# EAGLE library part M09X2 (library custom)
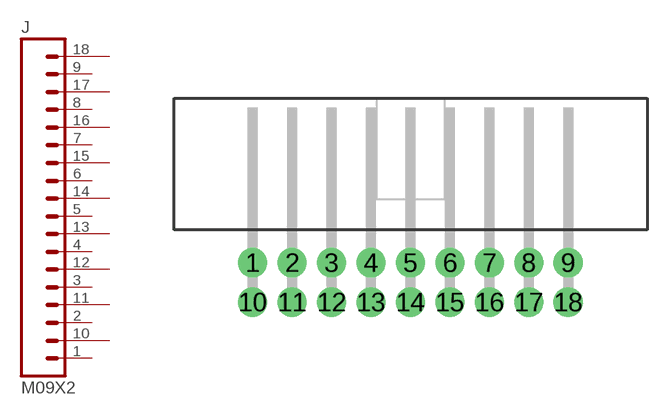
[diagram p140: symbol with the pads of M09X2; footprint M09X2]

Designator prefix J

## M09X2  [M09X2]
1  11  pas
2  12  pas
3  13  pas
4  14  pas
5  15  pas
6  16  pas
7  17  pas
8  18  pas
9  19  pas
10  21  pas
11  22  pas
12  23  pas
13  24  pas
14  25  pas
15  26  pas
16  27  pas
17  28  pas
18  29  pas

## Footprint M09X2 (pad centres in mm)
drill 1.016 pad 1.88: 1 0,0; 2 2.54,0; 3 5.08,0; 4 7.62,0; 5 10.16,0; 6 12.7,0; 7 15.24,0; 8 17.78,0; 9 20.32,0; 10 0,-2.54; 11 2.54,-2.54; 12 5.08,-2.54; 13 7.62,-2.54; 14 10.16,-2.54; 15 12.7,-2.54; 16 15.24,-2.54; 17 17.78,-2.54; 18 20.32,-2.54